# Altium schematic symbol library TYPE-C-31-M-12.SchLib: 1 symbol
Pins are listed as number, name and electrical type; pins without a type are passive.

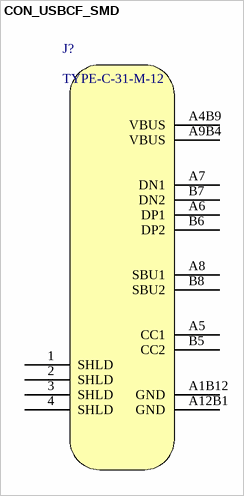
[diagram p0: symbol CON_USBCF_SMD]

## CON_USBCF_SMD
designator J?, comment TYPE-C-31-M-12
1 16P 5A Female Type-C SMD USB Connectors ROHS
footprint TYPE-C-31-M-12 (1 16P 5A Female Type-C SMD USB Connectors ROHS)
pins: 1 SHLD, 2 SHLD, 3 SHLD, 4 SHLD, A1B12 GND, A4B9 VBUS, A5 CC1, A6 DP1, A7 DN1, A8 SBU1, A9B4 VBUS, A12B1 GND, B5 CC2, B6 DP2, B7 DN2, B8 SBU2